# EAGLE library part RESISTORS_NETWORK_SIL_X7 (library passives)
SIL RESISTOR
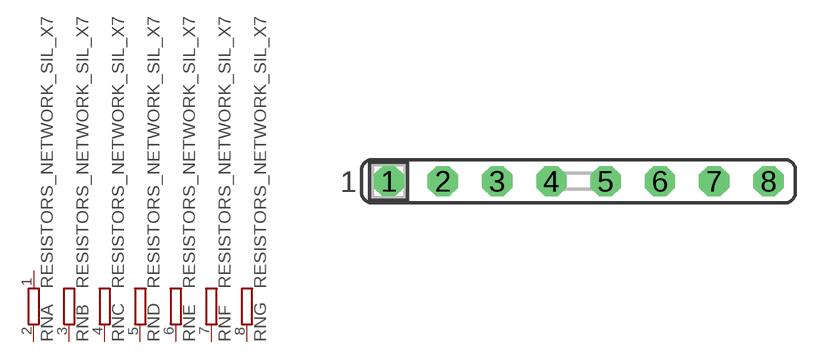
[diagram p0: symbol with the pads of RESISTORS_NETWORK_SIL_X7; footprint RESISTORS_NETWORK_SIL_X7]

Designator prefix RN; gates A=RES_NETWORK_SIL B=RES_NETWORK_SIL_1 C=RES_NETWORK_SIL_1 D=RES_NETWORK_SIL_1 E=RES_NETWORK_SIL_1 F=RES_NETWORK_SIL_1 G=RES_NETWORK_SIL_1

## RESISTORS_NETWORK_SIL_X7  [RESISTORS_NETWORK_SIL_X7]
1  A:1  pas
2  A:2  pas
3  B:2  pas
4  C:2  pas
5  D:2  pas
6  E:2  pas
7  F:2  pas
8  G:2  pas

## Footprint RESISTORS_NETWORK_SIL_X7 (pad centres in mm)
Single In Line
drill 0.6 pad 1.422 octagon: 1 -8.89,0; 2 -6.35,0; 3 -3.81,0; 4 -1.27,0; 5 1.27,0; 6 3.81,0; 7 6.35,0; 8 8.89,0